# EAGLE library part BQ24001_PWP_20 (library TIAnalog)
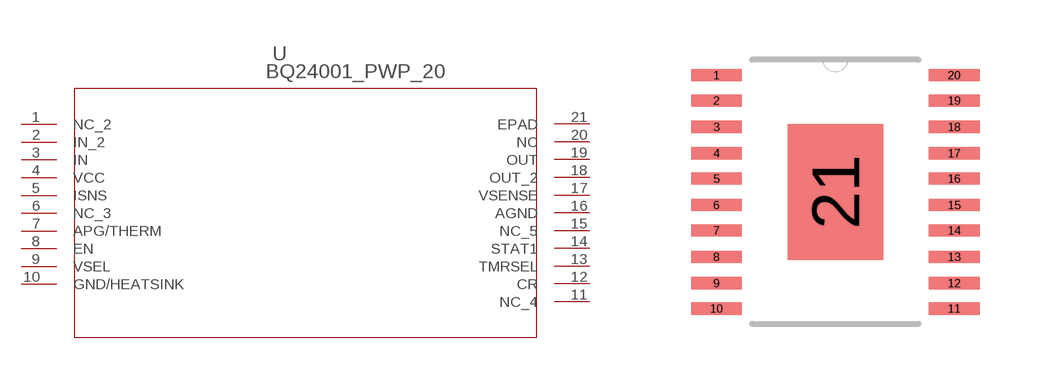
[diagram p6: symbol with the pads of PWP20_2P4X3P4; footprint PWP20_2P4X3P4]

Designator prefix U

## BQ24001_PWP_20 (DATASHEETURL: http://www.ti.com/lit/gpn/BQ24001; DESCRIPTION: Linear 1-cell Li-Ion Battery Charger w/Integrated FET, One LED; FAMILY_NAME: BATTERY CHARGE MANAGEMENT; GENERIC_PART_NUMBER: BQ24001; INDUSTRY_STD_PKG_TYPE: HTSSOP; MANUFACTURER: Texas Instruments; PACKAGE_DESIGNATOR: PWP; PIN_COUNT: 20)  [PWP20_2P4X3P4]
1  NC_2  nc
2  IN_2  in
3  IN  in
4  VCC  pwr
5  ISNS  in
6  NC_3  nc
7  APG/THERM  in
8  EN  in
9  VSEL  in
10  GND/HEATSINK  pwr
11  NC_4  nc
12  CR  in
13  TMRSEL  in
14  STAT1  out
15  NC_5  nc
16  AGND  pwr
17  VSENSE  in
18  OUT_2  out
19  OUT  out
20  NC  nc
21  EPAD  pwr

## Footprint PWP20_2P4X3P4 (pad centres in mm)
smd 1.27 x 0.305: 1 -2.972,2.921; 2 -2.972,2.286; 3 -2.972,1.626; 4 -2.972,0.965; 5 -2.972,0.33; 6 -2.972,-0.33; 7 -2.972,-0.965; 8 -2.972,-1.626; 9 -2.972,-2.286; 10 -2.972,-2.921; 11 2.972,-2.921; 12 2.972,-2.286; 13 2.972,-1.626; 14 2.972,-0.965; 15 2.972,-0.33; 16 2.972,0.33; 17 2.972,0.965; 18 2.972,1.626; 19 2.972,2.286; 20 2.972,2.921
smd 2.388 x 3.404: 21 0,0